# Altium footprint library canDrive_comp_pcb_lib.PcbLib: 33 footprints (part 2 of 3)
Each footprint in its own frame and in the unit in brackets; x right, y up, seen from the top. Pads: shape width x height; smd on the part's side, far side on the other; paste and mask are expansions set on the pad; w line width, h text height; cw(c..) or ccw(c..) is an arc to the next point about the centre after c.
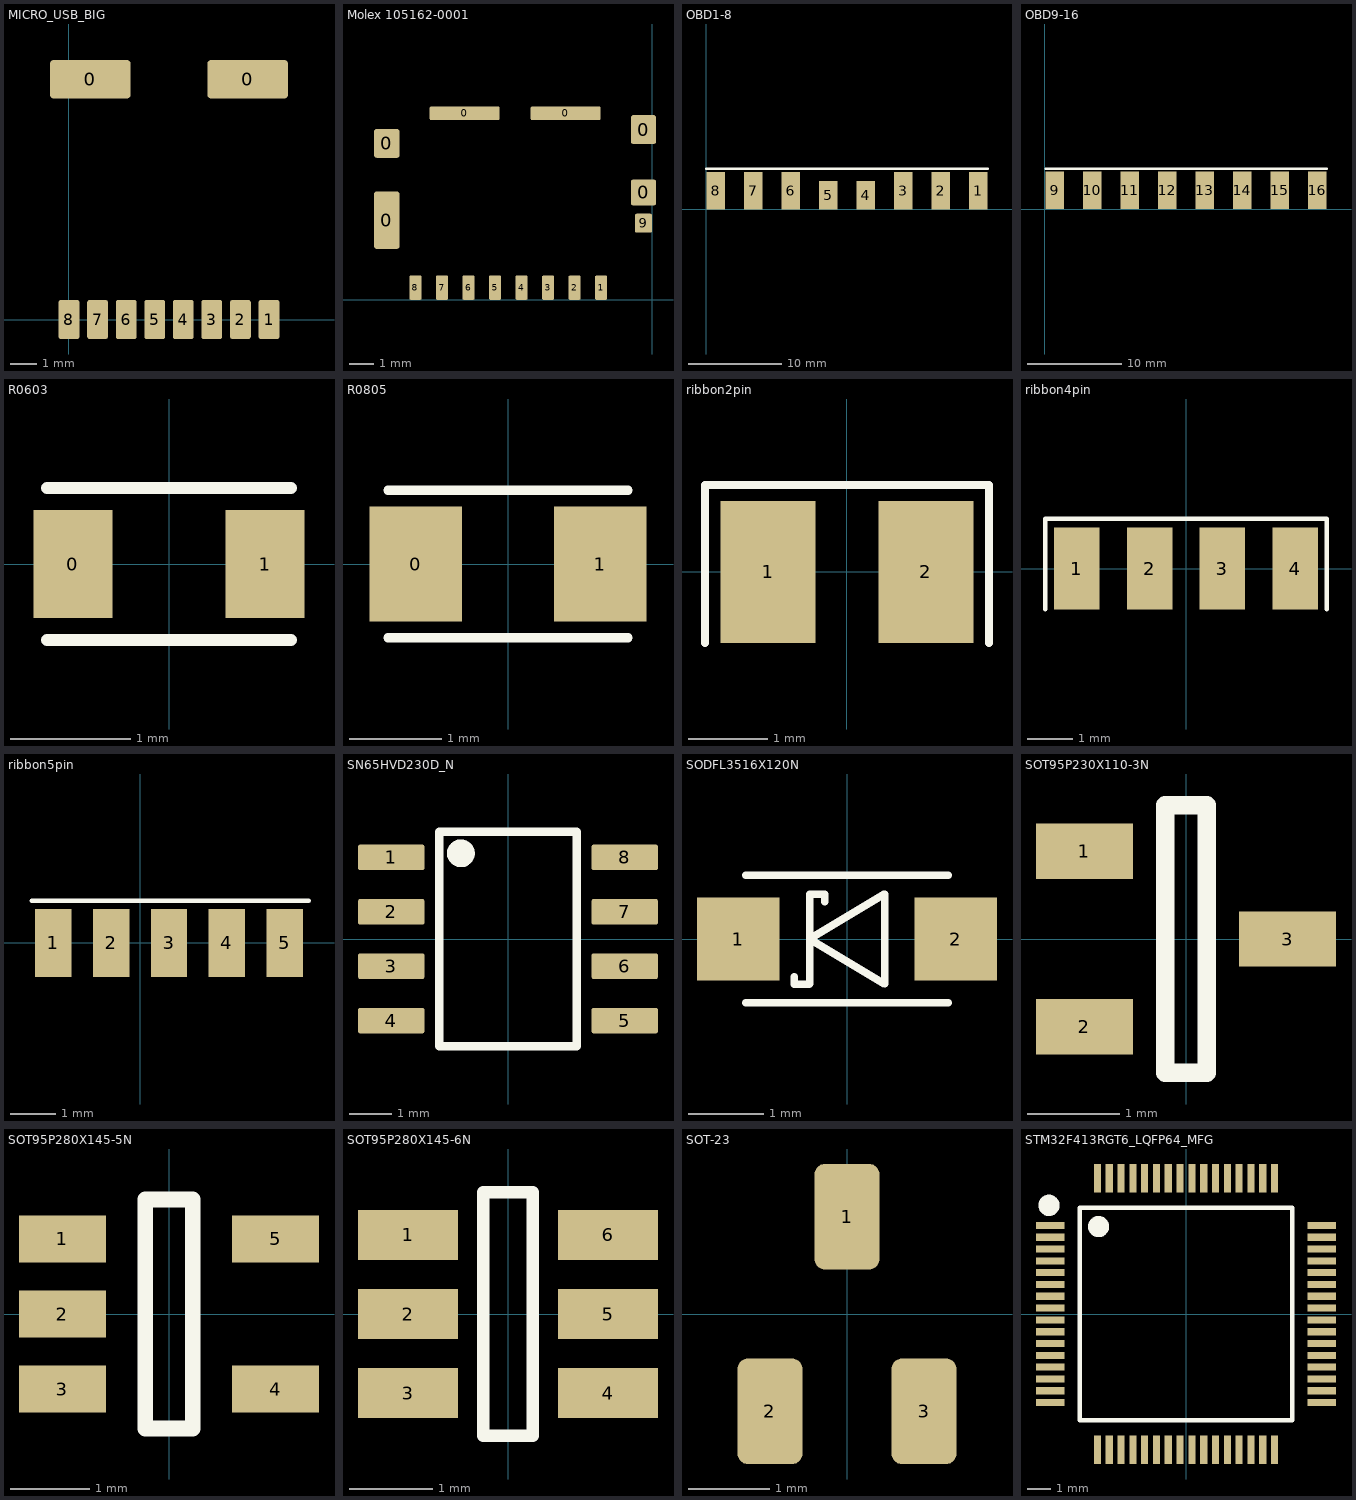
[diagram p1: the footprints below, top view; thin cyan lines are the x and y axes]

## MICRO_USB_BIG [mm] "MicroSD socket"
pads (10):
  rrect20% 3.1x1.5 smd: 0(0.82,9.25) 0(6.88,9.25)
  rrect20% 0.8x1.5 smd: 1(7.7,0) 2(6.6,0) 3(5.5,0) 4(4.4,0) 5(3.3,0) 6(2.2,0) 7(1.1,0) 8(0,0)
3D body: height 1.8, standoff 0, extent -1.15,-1.5 9.15,9.425

## Molex 105162-0001 [mm] "MicroSD socket"
pads (15):
  rrect20% 1.05x2.39 smd: 0(-11.01,3.305)
  rrect20% 1.05x1.2 smd: 0(-11.01,6.49) 0(-0.36,7.06)
  rrect20% 2.91x0.55 smd: 0(-7.78,7.735) 0(-3.59,7.735)
  rrect20% 1.05x1.08 smd: 0(-0.36,4.45)
  rrect20% 0.5x1 smd: 1(-2.12,0.5) 2(-3.22,0.5) 3(-4.32,0.5) 4(-5.42,0.5) 5(-6.52,0.5) 6(-7.62,0.5) 7(-8.72,0.5) 8(-9.82,0.5)
  rrect20% 0.72x0.78 smd: 9(-0.36,3.18)
3D body "1051620001.stp": height 1.43, standoff -0.02, extent -11.3,0.175 0,7.775

## OBD1-8 [mm]
pads (8):
  rect 2x4 smd mask+0.07: 1(29,2) 2(25,2) 3(21,2) 6(9,2) 7(5,2) 8(1,2)
  rect 2x3 smd mask+0.07: 4(17,1.5) 5(13,1.5)
Top Overlay:
  lines w0.254: 0,4.325 30,4.325

## OBD9-16 [mm]
pads (8):
  rect 2x4 smd mask+0.07: 9(1.075,2) 10(5.075,2) 11(9.075,2) 12(13.075,2) 13(17.075,2) 14(21.075,2) 15(25.075,2) 16(29.075,2)
Top Overlay:
  lines w0.254: 0.1,4.3 30.1,4.3

## R0603 [mm] "Imperial 0603"
pads (2):
  rect 0.66x0.9 smd: 0(-0.8,0) 1(0.8,0)
Top Overlay:
  lines w0.1: -1.016,-0.635 1.016,-0.635 ; -1.016,0.635 1.016,0.635
3D body "Res0603.step": height 0.44, standoff -0.02, extent -0.8,-0.4 0.8,0.4

## R0805 [mm] "Imperial 0805"
pads (2):
  rect 1x1.25 smd: 0(-1,0) 1(1,0)
Top Overlay:
  lines w0.1: -1.3,-0.8 1.3,-0.8 ; -1.3,0.8 1.3,0.8
3D body "User Library-0805 SMD Resistor.step": height 0.78, standoff 0, extent -0.995,-0.625 1.005,0.625

## ribbon2pin [mm]
pads (2):
  rect 1.2x1.8 smd paste+0 mask+0.07: 1(-1,0) 2(1,0)
Top Overlay:
  lines w0.1: -1.8,-0.9 -1.8,1.1 -1.7,1.1 1.8,1.1 1.8,-0.9

## ribbon4pin [mm]
pads (4):
  rect 1x1.8 smd paste+0 mask+0.07: 1(-2.4,0) 2(-0.8,0) 3(0.8,0) 4(2.4,0)
Top Overlay:
  lines w0.1: -3.1,-0.9 -3.1,1.1 3.1,1.1 3.1,-0.9

## ribbon5pin [mm]
pads (5):
  rect 0.8x1.5 smd paste+0 mask+0.07: 1(-1.905,0) 2(-0.635,0) 3(0.635,0) 4(1.905,0) 5(3.175,0)
Top Overlay:
  lines w0.1: -2.375,0.925 3.7,0.925

## SN65HVD230D_N [mm] "SOIC, 8-Leads, Body 5x4mm, Pitch 1.27mm, IPC Medium Density"
height 1.75
pads (8):
  rrect17% 1.55x0.6 smd: 1(-2.725,1.905) 2(-2.725,0.635) 3(-2.725,-0.635) 4(-2.725,-1.905) 5(2.725,-1.905) 6(2.725,-0.635) 7(2.725,0.635) 8(2.725,1.905)
Top Overlay:
  circle w0.35: c-1.1,2 r0.15
  lines w0.2: -1.6,-2.5 -1.6,2.5 1.6,2.5 1.6,-2.5 -1.6,-2.5
3D body "SOIC-8akaD0008AakaM08A.stp": height 1.63, standoff 0, extent -3,-2.45 3,2.45

## SODFL3516X120N [mm]
pads (2):
  rect 1.1x1.1 smd: 1(-1.45,0) 2(1.45,0)
Top Overlay:
  lines w0.1: -1.35,-0.85 1.35,-0.85 ; -1.35,0.85 1.35,0.85 ; -0.7,-0.5 -0.7,-0.6 -0.5,-0.6 -0.5,0.6 -0.3,0.6 -0.3,0.5 ; -0.5,0 0.5,-0.6 0.5,0.6 -0.5,0
3D body "PMEG4005EH,115.stp": height 1.2, standoff 0, extent -1.75,-0.8 1.75,0.8

## SOT95P230X110-3N [mm]
pads (3):
  rect 1.05x0.6 smd: 1(-1.1,0.95) 2(-1.1,-0.95) 3(1.1,0)
Top Overlay:
  lines w0.2: -0.225,-1.45 0.225,-1.45 0.225,1.45 -0.225,1.45 -0.225,-1.45
3D body "PMBT3904,215.stp": height 1.1, standoff 0, extent -1.15,-1.45 1.15,1.45

## SOT95P280X145-5N [mm]
pads (5):
  rect 1.1x0.6 smd: 1(-1.35,0.95) 2(-1.35,0) 3(-1.35,-0.95) 4(1.35,-0.95) 5(1.35,0.95)
Top Overlay:
  lines w0.2: -0.3,-1.45 -0.3,1.45 0.3,1.45 0.3,-1.45 -0.3,-1.45
3D body "TPS560200DBVR.stp": height 1.45, standoff 0, extent -1.4,-1.45 1.4,1.45

## SOT95P280X145-6N [mm]
pads (6):
  rect 1.2x0.6 smd: 1(-1.2,0.95) 2(-1.2,0) 3(-1.2,-0.95) 4(1.2,-0.95) 5(1.2,0) 6(1.2,0.95)
Top Overlay:
  lines w0.15: -0.3,-1.462 -0.3,1.462 0.3,1.462 0.3,-1.462 -0.3,-1.462
3D body "USBLC6-2SC6.stp": height 1.45, standoff 0, extent -1.4,-1.462 1.4,1.463

## SOT-23 [mm] "SOT-23"
pads (3):
  rrect30% 0.8x1.3 smd: 1(0,1.2) 2(-0.95,-1.2) 3(0.95,-1.2)
3D body "SOT-23.step": height 1.09, standoff -0.01, extent -1.5,-1.25 1.5,1.25

## STM32F413RGT6_LQFP64_MFG [mm]
pads (64):
  rect 1.2x0.3 smd paste+0: 1(-5.75,3.75) 2(-5.75,3.25) 3(-5.75,2.75) 4(-5.75,2.25) 5(-5.75,1.75) 6(-5.75,1.25) 7(-5.75,0.75) 8(-5.75,0.25) 9(-5.75,-0.25) 10(-5.75,-0.75) 11(-5.75,-1.25) 12(-5.75,-1.75) 13(-5.75,-2.25) 14(-5.75,-2.75) 15(-5.75,-3.25) 16(-5.75,-3.75) 33(5.75,-3.75) 34(5.75,-3.25) 35(5.75,-2.75) 36(5.75,-2.25) 37(5.75,-1.75) 38(5.75,-1.25) 39(5.75,-0.75) 40(5.75,-0.25) 41(5.75,0.25) 42(5.75,0.75) 43(5.75,1.25) 44(5.75,1.75) 45(5.75,2.25) 46(5.75,2.75) 47(5.75,3.25) 48(5.75,3.75)
  rect 0.3x1.2 smd paste+0: 17(-3.75,-5.75) 18(-3.25,-5.75) 19(-2.75,-5.75) 20(-2.25,-5.75) 21(-1.75,-5.75) 22(-1.25,-5.75) 23(-0.75,-5.75) 24(-0.25,-5.75) 25(0.25,-5.75) 26(0.75,-5.75) 27(1.25,-5.75) 28(1.75,-5.75) 29(2.25,-5.75) 30(2.75,-5.75) 31(3.25,-5.75) 32(3.75,-5.75) 49(3.75,5.75) 50(3.25,5.75) 51(2.75,5.75) 52(2.25,5.75) 53(1.75,5.75) 54(1.25,5.75) 55(0.75,5.75) 56(0.25,5.75) 57(-0.25,5.75) 58(-0.75,5.75) 59(-1.25,5.75) 60(-1.75,5.75) 61(-2.25,5.75) 62(-2.75,5.75) 63(-3.25,5.75) 64(-3.75,5.75)
Top Overlay:
  circle w0.5: c-5.8,4.6 r0.2
  circle w0.5: c-3.7,3.7 r0.2
  lines w0.2: -4.5,-4.5 4.5,-4.5 4.5,4.5 -4.5,4.5 -4.5,-4.5
3D body "IC_STMicroelectronics_STM32F413RGT6_eec.STEP": height 1.6, standoff 0, extent -6,-6 6,6